# EAGLE library part ADXL357BEZ (library Sensor)
ACCEL 10-40G I2C/SPI 14CLCC Manufacturer's datasheet <https://www.analog.com/media/en/technical-documentation/data-sheets/ADXL356-357.pdf>
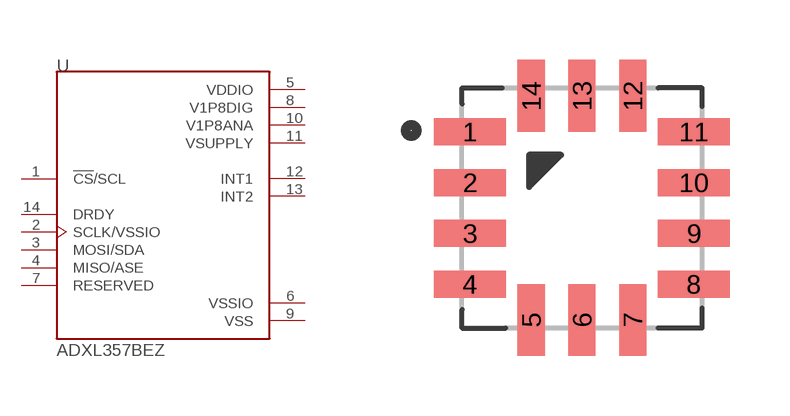
[diagram p31: symbol with the pads of CLCC-14; footprint CLCC-14]

Designator prefix U

## ADXL357BEZ (CREATED_BY: PCBLayout.com; DIGIKEY_PN: ADXL357BEZ-ND; MANUFACTURER: Analog Devices Inc.; MPN: ADXL357BEZ; PACKAGE: CLCC-14)  [CLCC-14]
1  !CS!/SCL  in
2  SCLK/VSSIO
3  MOSI/SDA
4  MISO/ASE
5  VDDIO  pwr
6  VSSIO  pwr
7  RESERVED  pas
8  V1P8DIG  pwr
9  VSS  pwr
10  V1P8ANA  pwr
11  VSUPPLY  pwr
12  INT1  out
13  INT2  out
14  DRDY

## Footprint CLCC-14 (pad centres in mm)
smd 1.8 x 0.68: 1 -2.8,1.905; 2 -2.8,0.635; 3 -2.8,-0.635; 4 -2.8,-1.905; 8 2.8,-1.905; 9 2.8,-0.635; 10 2.8,0.635; 11 2.8,1.905
smd 0.68 x 1.8: 5 -1.27,-2.8; 6 0,-2.8; 7 1.27,-2.8; 12 1.27,2.8; 13 0,2.8; 14 -1.27,2.8